# EAGLE library part MICROUSBPORT (library BLDCBOMv4)
Conn Mini USB Type B RCP 5 POS 1.6mm Solder RA Thru-Hole 5 Terminal 1 Port Tray
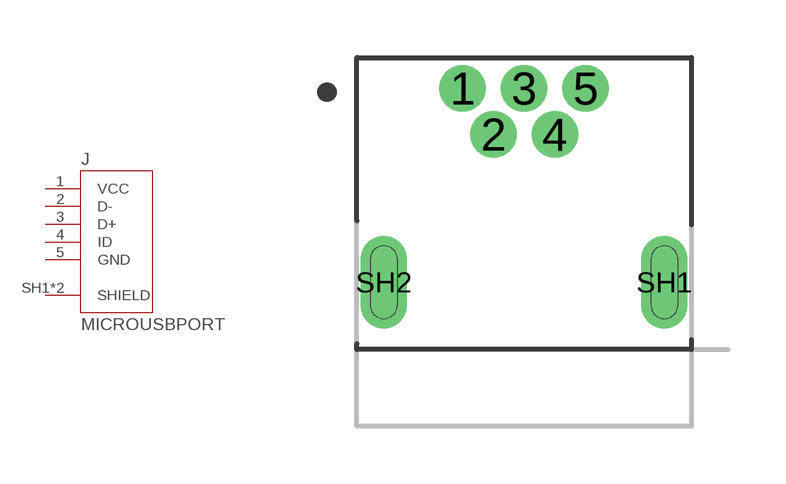
[diagram p4: symbol with the pads of TE_1734510-1; footprint TE_1734510-1]

Designator prefix J

## MICROUSBPORT (COMMENT: 1734510-1; DESCRIPTION: Conn Mini USB Type B RCP 5 POS 1.6mm Solder RA Thru-Hole 5 Terminal 1 Port Tray; DIGI-KEY_PART_NUMBER: A107788-ND; DIGI-KEY_PURCHASE_URL: https://www.digikey.com/product-detail/en/te-connectivity-amp-connectors/1734510-1/A107788-ND/4021669?utm_source=snapeda&utm_medium=aggregator&utm_campaign=symbol; MF: TE Connectivity; MP: 1734510-1; PACKAGE: None; TE_PURCHASE_URL: https://www.te.com/usa-en/product-1734510-1.html?te_bu=Cor&te_type=disp&te_campaign=seda_glo_cor-seda-global-disp-prtnr-fy19-seda-model-bom-cta_sma-317_1&elqCampaignId=32493)  [TE_1734510-1]
1  VCC  pas
2  D-  pas
3  D+  pas
4  ID  pas
5  GND  pas
SH1  SHIELD  pas
SH2  SHIELD  pas

## Footprint TE_1734510-1 (pad centres in mm)
drill 0.7 pad 1.2: 1 -1.6,5.05; 2 -0.8,3.85; 3 0,5.05; 4 0.8,3.85; 5 1.6,5.05
drill 0.7 long: SH1 3.65,0; SH2 -3.65,0